# Altium footprint library CAPPM3216X180N.PcbLib: 1 footprints
Each footprint in its own frame and in the unit in brackets; x right, y up, seen from the top. Pads: shape width x height; smd on the part's side, far side on the other; paste and mask are expansions set on the pad; w line width, h text height; cw(c..) or ccw(c..) is an arc to the next point about the centre after c.
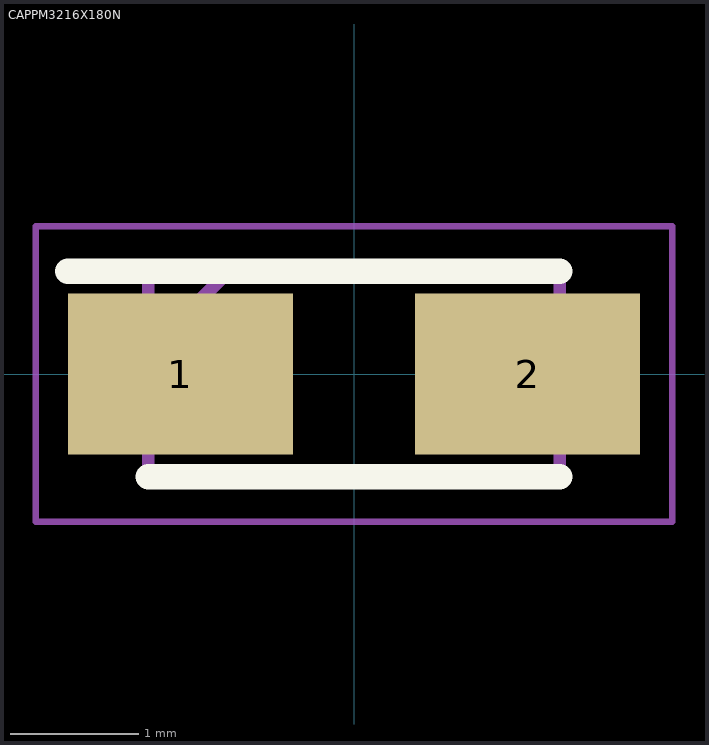
[diagram p0: the footprint, top view; thin cyan lines are the x and y axes]

## CAPPM3216X180N [mm]
pads (2):
  rect 1.75x1.25 smd: 1(-1.35,0) 2(1.35,0)
Top Overlay:
  lines w0.2: -2.225,0.8 1.6,0.8 ; -1.6,-0.8 1.6,-0.8
Mechanical 15:
  lines w0.1: -1.6,0.175 -0.975,0.8 ; -1.6,-0.8 1.6,-0.8 1.6,0.8 -1.6,0.8 -1.6,-0.8
Mechanical 20:
  lines w0.05: -2.475,-1.15 2.475,-1.15 2.475,1.15 -2.475,1.15 -2.475,-1.15